# Altium schematic symbol library 030-7337.Schlib: 1 symbol
Pins are listed as number, name and electrical type; pins without a type are passive.

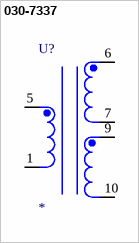
[diagram p0: symbol 030-7337]

## 030-7337
designator U?
Transformer Dual Secondary 110V:15V
pins: 1 PRIMARY2, 5 PRIMARY1, 6 SECONDARY1, 7 SECONDARY2, 9 SECONDARY3, 10 SECONDARY4